# Altium footprint library MOvIT-Detect Lib.PcbLib: 26 footprints (part 1 of 2)
Each footprint in its own frame and in the unit in brackets; x right, y up, seen from the top. Pads: shape width x height; smd on the part's side, far side on the other; paste and mask are expansions set on the pad; w line width, h text height; cw(c..) or ccw(c..) is an arc to the next point about the centre after c.
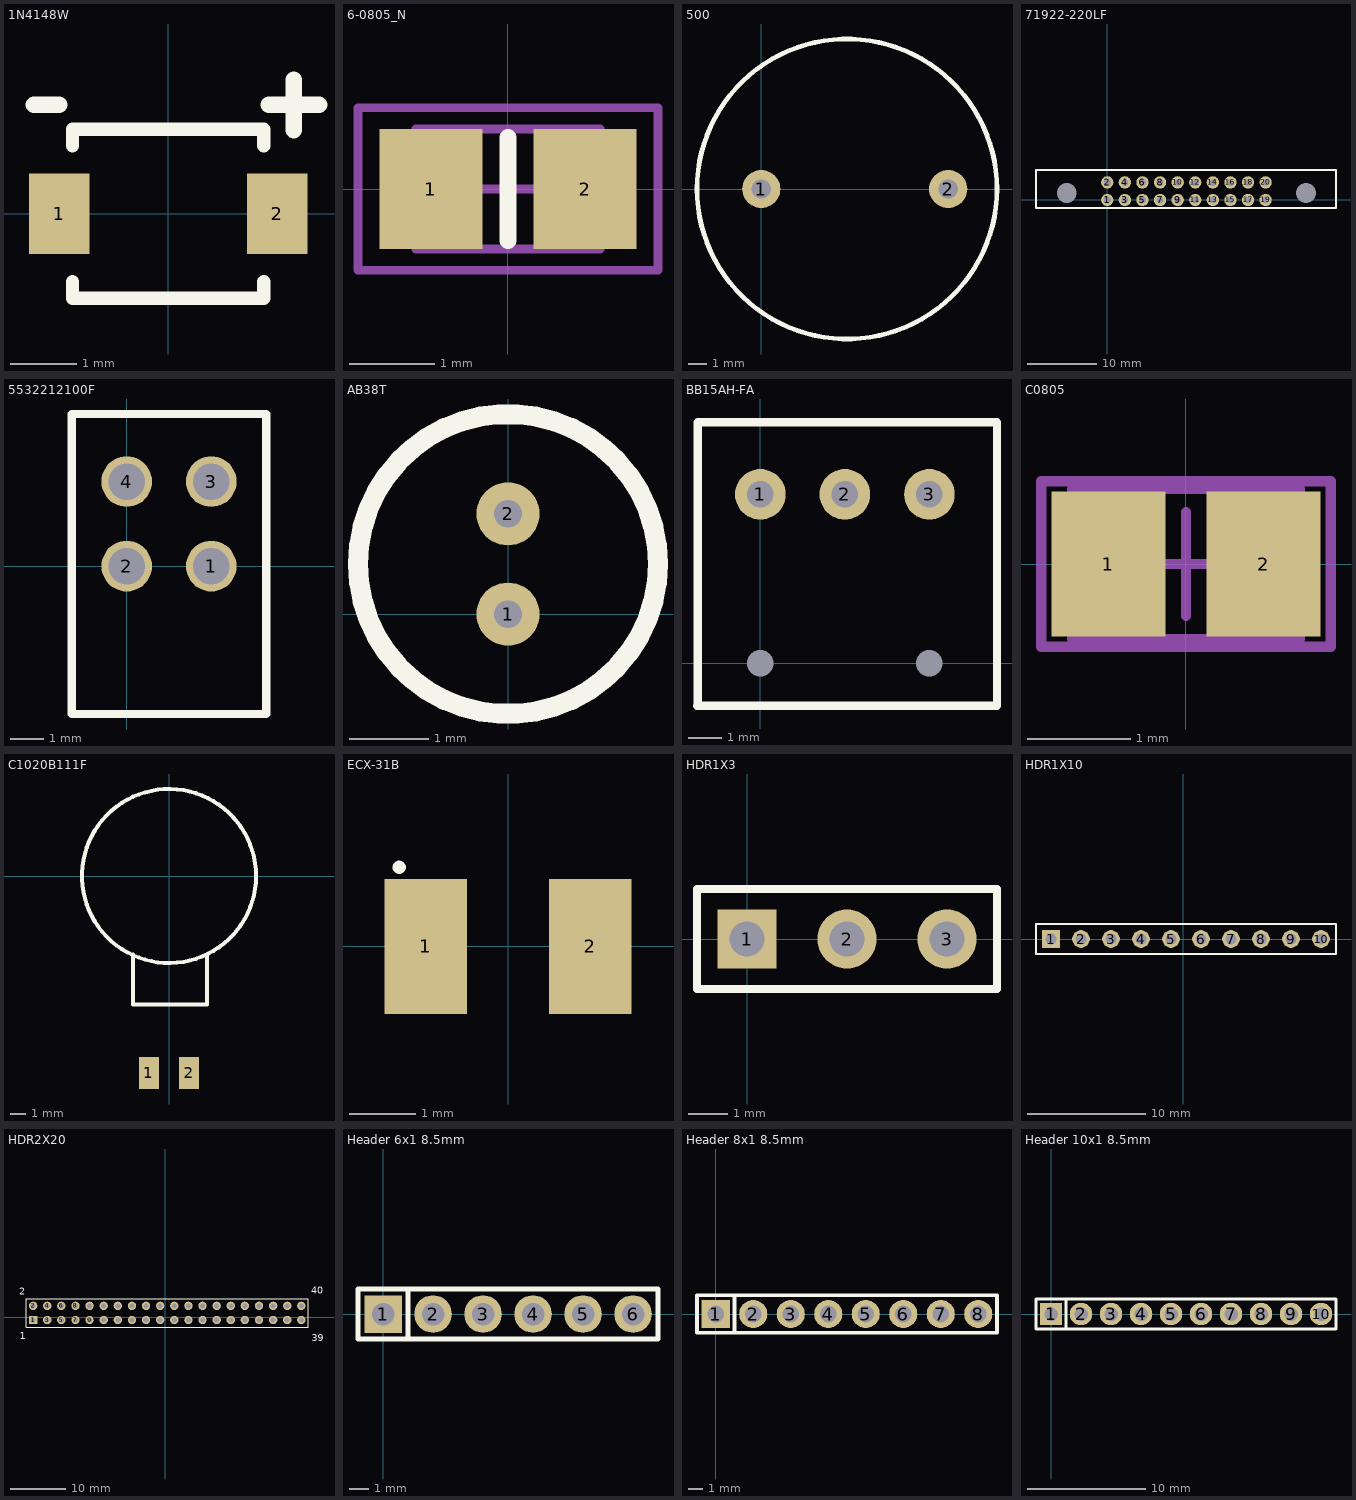
[diagram p0: the footprints below, top view; thin cyan lines are the x and y axes]

## 1N4148W [mm] "Diode"
height 1.35
pads (2):
  rect 0.92x1.22 smd: 1(-1.651,0) 2(1.651,0)
Top Overlay:
  lines w0.2: -1.45,-1.031 -1.45,-1.281 1.45,-1.281 1.45,-1.031 ; -1.45,1.031 -1.45,1.281 1.45,1.281 1.45,1.031
  lines w0.254: -2.032,1.651 -1.651,1.651 ; 1.524,1.651 2.286,1.651 ; 1.905,1.27 1.905,2.032
3D body "1N4148W.step": height 1.35, standoff 0, extent -1.85,-0.9 1.85,0.9

## 6-0805_N [mm] "Chip Resistor, Body 2.0x1.2mm, IPC Medium Density"
height 0.7
pads (2):
  rect 1.2x1.4 smd: 1(-0.9,0) 2(0.9,0)
Top Overlay:
  lines w0.2: 0,-0.6 0,0.6
Mechanical 13:
  lines w0.1: -1.075,-0.7 -1.075,0.7 1.075,0.7 1.075,-0.7 -1.075,-0.7
Mechanical 15:
  lines w0.1: -0.5,0 0.5,0 ; 0,-0.5 0,0.5 ; -1.75,-0.95 -1.75,0.95 1.75,0.95 1.75,-0.95 -1.75,-0.95
3D body: height 0.7, standoff 0, extent -1.075,-0.7 1.075,0.7

## 500 [mm] "12mm Battery holder"
height 3.81
pads (2):
  round 2.04 hole 1.02: 1(0,0) 2(9.97,0)
Top Overlay:
  circle w0.254: c4.572,0 r8

## 71922-220LF [mil] "Analog connector"
height 638
pads (22):
  round 70 hole 40: 1(0,0) 2(0,100) 3(100,0) 4(100,100) 5(200,0) 6(200,100) 7(300,0) 8(300,100) 9(400,0) 10(400,100) 11(500,0) 12(500,100) 13(600,0) 14(600,100) 15(700,0) 16(700,100) 17(800,0) 18(800,100) 19(900,0) 20(900,100)
  round 0 hole 112: ""(-230,40) ""(1130,40)
Top Overlay:
  lines w10: -405,-45 -405,170 1300,170 1300,-45 -405,-45
3D body "71922_y20_asm.stp": height 346.5, standoff -102.99, extent -427.92,-907 1331.92,148.06

## 5532212100F [mil] "Double LED"
height 380
pads (4):
  round 60 hole 43: 1(100,0) 2(0,0) 3(100,100) 4(0,100)
Top Overlay:
  lines w10: -65,-175 -65,180 165,180 165,-175 -65,-175
3D body "User Library-led_6866.step": height 379.92, standoff -144.88, extent -35.04,-408.86 135.04,144.68

## AB38T [mm] "Oscillator at 32.7680KHz"
height 8.3
pads (2):
  round 0.8 hole 0.35: 1(0,0) 2(0,1.27)
Top Overlay:
  circle w0.254: c0,0.635 r1.9
3D body "User Library-Crystal TH.step": height 8.27, standoff -2.5, extent -1.6,-1.064 1.6,2.386

## BB15AH-FA [mil]
pads (5):
  round 60 hole 31.5: 1(0,200) 2(100,200) 3(200,200)
  round 0 hole 31.5: 22(200,0) ""(0,0)
Top Overlay:
  lines w10: -75,-50 -74.33,-49.33 -74.33,285 280,285 280,-50 -75,-50
3D body "BB15AH-FA.stp": height 303, standoff -106, extent -77.99,-588.99 268,216.99

## C0805 [mm] "Chip Capacitor, Body 2.0x1.3mm, IPC High Density"
height 1.4
pads (2):
  rect 1.1x1.4 smd: 1(-0.75,0) 2(0.75,0)
Mechanical 13:
  lines w0.1: -1.1,-0.725 1.1,-0.725 1.1,0.725 -1.1,0.725 -1.1,-0.725
Mechanical 15:
  lines w0.1: -0.5,0 0.5,0 ; 0,-0.5 0,0.5 ; -1.4,-0.8 1.4,-0.8 1.4,0.8 -1.4,0.8 -1.4,-0.8
3D body: height 1.4, standoff 0, extent -1.1,-0.725 1.1,0.725

## C1020B111F [mil] "DC motor"
height 118.11
pads (2):
  rect 50x80 smd: 1(-50,-490) 2(50,-490)
Top Overlay:
  circle w10: c0,0 r216.54
  lines w10: -90,-195 -90,-320 95,-320 95,-195
3D body: height 50, standoff 0, extent -212.59,-212.59 212.61,212.6
3D body: height 39.37, standoff 0, extent -86,-447 89,-211.49

## ECX-31B [mm] "Crystal at 32.768Hz"
height 0.9
pads (2):
  rect 1.25x2.05 smd: 1(-1.25,0) 2(1.25,0)
Top Overlay:
  circle w0.1: c-1.65,1.2 r0.05
3D body "ECX-31B.step": height 0.9, standoff 0, extent -1.85,-1 1.85,1

## HDR1X3 [mm] "Connector; Header; 3 Position"
pads (3):
  rect 1.5x1.5 hole 0.9: 1(0,0)
  round 1.5 hole 0.9: 2(2.54,0) 3(5.08,0)
Top Overlay:
  lines w0.2: -1.27,-1.27 -1.27,1.27 6.35,1.27 6.35,-1.27 -1.27,-1.27
3D body "User Library-1x3 TH Pitch 2_54mm.step": height 9.5, standoff -3.2, extent -1.27,-1.27 6.35,1.27

## HDR1X10 [mm] "Connector; Header; 10 Position"
pads (10):
  rect 1.5x1.5 hole 0.9: 1(-11.176,0)
  round 1.5 hole 0.9: 2(-8.636,0) 3(-6.096,0) 4(-3.556,0) 5(-1.016,0) 6(1.524,0) 7(4.064,0) 8(6.604,0) 9(9.144,0) 10(11.684,0)
Top Overlay:
  lines w0.2: -12.446,-1.27 -12.446,1.27 -10.541,1.27 12.954,1.27 12.954,-1.27 -12.446,-1.27
3D body "User Library-Header_Fem_1X10.step": height 8.5, standoff -3.2, extent -12.696,-1.27 13.204,1.27

## HDR2X20 [mm] "Connector; Header; 20x2 Position"
pads (40):
  rect 1.5x1.5 hole 0.9: 1(-23.749,-0.508)
  round 1.5 hole 0.9: 2(-23.749,2.032) 3(-21.209,-0.508) 4(-21.209,2.032) 5(-18.669,-0.508) 6(-18.669,2.032) 7(-16.129,-0.508) 8(-16.129,2.032) 9(-13.589,-0.508) 10(-13.589,2.032) 11(-11.049,-0.508) 12(-11.049,2.032) 13(-8.509,-0.508) 14(-8.509,2.032) 15(-5.969,-0.508) 16(-5.969,2.032) 17(-3.429,-0.508) 18(-3.429,2.032) 19(-0.889,-0.508) 20(-0.889,2.032) 21(1.651,-0.508) 22(1.651,2.032) 23(4.191,-0.508) 24(4.191,2.032) 25(6.731,-0.508) 26(6.731,2.032) 27(9.271,-0.508) 28(9.271,2.032) 29(11.811,-0.508) 30(11.811,2.032) 31(14.351,-0.508) 32(14.351,2.032) 33(16.891,-0.508) 34(16.891,2.032) 35(19.431,-0.508) 36(19.431,2.032) 37(21.971,-0.508) 38(21.971,2.032) 39(24.511,-0.508) 40(24.511,2.032)
Top Overlay:
  lines w0.2: -25.019,-1.778 25.781,-1.778 25.781,3.302 -25.019,3.302 -25.019,-1.778
  text "1" at -26.162,-3.937 h1.27
  text "2" at -26.289,4.064 h1.27
  text "40" at 26.289,4.191 h1.27
  text "39" at 26.416,-4.318 h1.27
3D body "Header 2x20 2_54mm.STEP": height 8.5, standoff -2.6, extent -25.169,-1.738 25.931,3.262

## Header 6x1 8.5mm [mil] "Stackable 6 pin header"
pads (6):
  rect 75x75 hole 45: 1(0,0)
  round 75 hole 45: 2(100,0) 3(200,0) 4(300,0) 5(400,0) 6(500,0)
Top Overlay:
  lines w10: 50,-50 550,-50 550,50 50,50 ; 50,-50 50,50 ; 50,-50 -50,-50 -50,0 -50,50 50,50
3D body "SIL_Socket06.stp": height 334.65, standoff -584.65, extent -49.99,-49.99 550.01,50.01

## Header 8x1 8.5mm [mil] "Stackable 8 pin header"
pads (8):
  rect 75x75 hole 45: 1(0,0)
  round 75 hole 45: 2(100,0) 3(200,0) 4(300,0) 5(400,0) 6(500,0) 7(600,0) 8(700,0)
Top Overlay:
  lines w10: 50,-50 50,50 ; -50,-50 -50,50 750,50 750,-50 -50,-50
3D body "SIL_Socket08_.stp": height 334.65, standoff -584.65, extent -50,-49.99 750,50.01

## Header 10x1 8.5mm [mil] "Stackable 10 pin header"
pads (10):
  rect 75x75 hole 45: 1(0,0)
  round 75 hole 45: 2(100,0) 3(200,0) 4(300,0) 5(400,0) 6(500,0) 7(600,0) 8(700,0) 9(800,0) 10(900,0)
Top Overlay:
  lines w10: 50,-50 50,50 ; 50,-50 950,-50 950,50 50,50 ; 50,-50 -50,-50 -50,50 50,50
3D body "SIL_Socket10.stp": height 334.65, standoff -584.65, extent -50,-50 950,50